# Altium schematic symbol library Capacitor_Electrolit.SchLib: 1 symbol
Pins are listed as number, name and electrical type; pins without a type are passive.

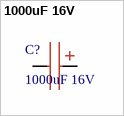
[diagram p0: symbol 1000uF 16V]

## 1000uF 16V
designator C?
footprint 1000uF_16V
pins: 1, 2